# EAGLE library part SAL-XC886CLM-8FFA (library useful-infineon)
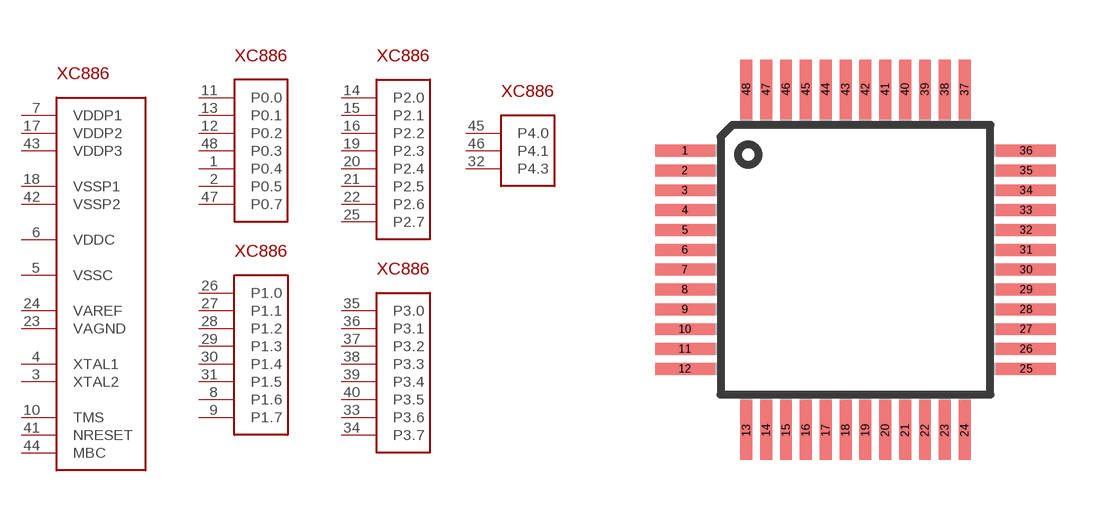
[diagram p2: symbol with the pads of PG-TQFP-48; footprint PG-TQFP-48]

Designator prefix -; gates G$1=XC886_FUNC G$2=XC886_P0 G$3=XC886_P1 G$4=XC886_P2 G$5=XC886_P3 G$6=XC886_P4

## SAL-XC886CLM-8FFA  [PG-TQFP-48]
1  G$2:P0.4
2  G$2:P0.5
3  G$1:XTAL2
4  G$1:XTAL1
5  G$1:VSSC
6  G$1:VDDC
7  G$1:VDDP1
8  G$3:P1.6
9  G$3:P1.7
10  G$1:TMS
11  G$2:P0.0
12  G$2:P0.2
13  G$2:P0.1
14  G$4:P2.0
15  G$4:P2.1
16  G$4:P2.2
17  G$1:VDDP2
18  G$1:VSSP1
19  G$4:P2.3
20  G$4:P2.4
21  G$4:P2.5
22  G$4:P2.6
23  G$1:VAGND
24  G$1:VAREF
25  G$4:P2.7
26  G$3:P1.0
27  G$3:P1.1
28  G$3:P1.2
29  G$3:P1.3
30  G$3:P1.4
31  G$3:P1.5
32  G$6:P4.3
33  G$5:P3.6
34  G$5:P3.7
35  G$5:P3.0
36  G$5:P3.1
37  G$5:P3.2
38  G$5:P3.3
39  G$5:P3.4
40  G$5:P3.5
41  G$1:NRESET
42  G$1:VSSP2
43  G$1:VDDP3
44  G$1:MBC
45  G$6:P4.0
46  G$6:P4.1
47  G$2:P0.7
48  G$2:P0.3

## Footprint PG-TQFP-48 (pad centres in mm)
smd 1.5 x 0.3: 1 -4.4,2.85; 2 -4.4,2.35; 3 -4.4,1.85; 4 -4.4,1.35; 5 -4.4,0.85; 6 -4.4,0.35; 7 -4.4,-0.15; 8 -4.4,-0.65; 9 -4.4,-1.15; 10 -4.4,-1.65; 11 -4.4,-2.15; 12 -4.4,-2.65; 25 4.2,-2.65; 26 4.2,-2.15; 27 4.2,-1.65; 28 4.2,-1.15; 29 4.2,-0.65; 30 4.2,-0.15; 31 4.2,0.35; 32 4.2,0.85; 33 4.2,1.35; 34 4.2,1.85; 35 4.2,2.35; 36 4.2,2.85
smd 0.3 x 1.5: 13 -2.85,-4.2; 14 -2.35,-4.2; 15 -1.85,-4.2; 16 -1.35,-4.2; 17 -0.85,-4.2; 18 -0.35,-4.2; 19 0.15,-4.2; 20 0.65,-4.2; 21 1.15,-4.2; 22 1.65,-4.2; 23 2.15,-4.2; 24 2.65,-4.2; 37 2.65,4.4; 38 2.15,4.4; 39 1.65,4.4; 40 1.15,4.4; 41 0.65,4.4; 42 0.15,4.4; 43 -0.35,4.4; 44 -0.85,4.4; 45 -1.35,4.4; 46 -1.85,4.4; 47 -2.35,4.4; 48 -2.85,4.4